# EAGLE library part LT1512 (library linear-technology)
Linear Tech-SEPIC CC/CV Battery charger
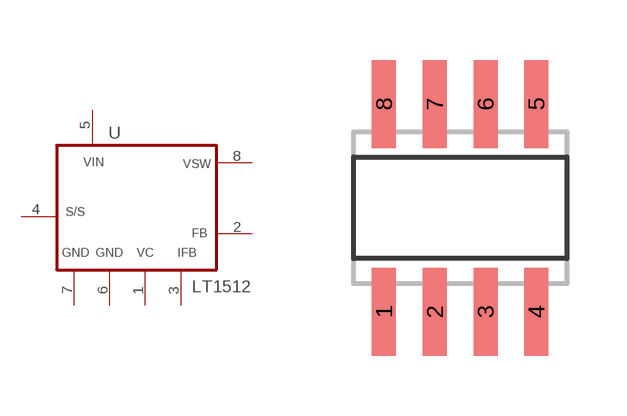
[diagram p5: symbol with the pads of SO08; footprint SO08]

Designator prefix U

## LT1512 (P1I: o)  [SO08]
1  VC  pas
2  FB  pas
3  IFB  pas
4  S/S  pas
5  VIN  pwr
6  GND  pwr
7  GND1  pwr
8  VSW  pas

## Footprint SO08 (pad centres in mm)
SMALL OUTLINE INTEGRATED CIRCUIT body 3.9 mm/JEDEC MS-012AA
smd 0.6 x 2.2: 1 -1.905,-2.6; 2 -0.635,-2.6; 3 0.635,-2.6; 4 1.905,-2.6; 5 1.905,2.6; 6 0.635,2.6; 7 -0.635,2.6; 8 -1.905,2.6